# Altium integrated library Linear Technology Operational Amplifiers (LT1000).IntLib: 2280 symbols (part 77 of 79)
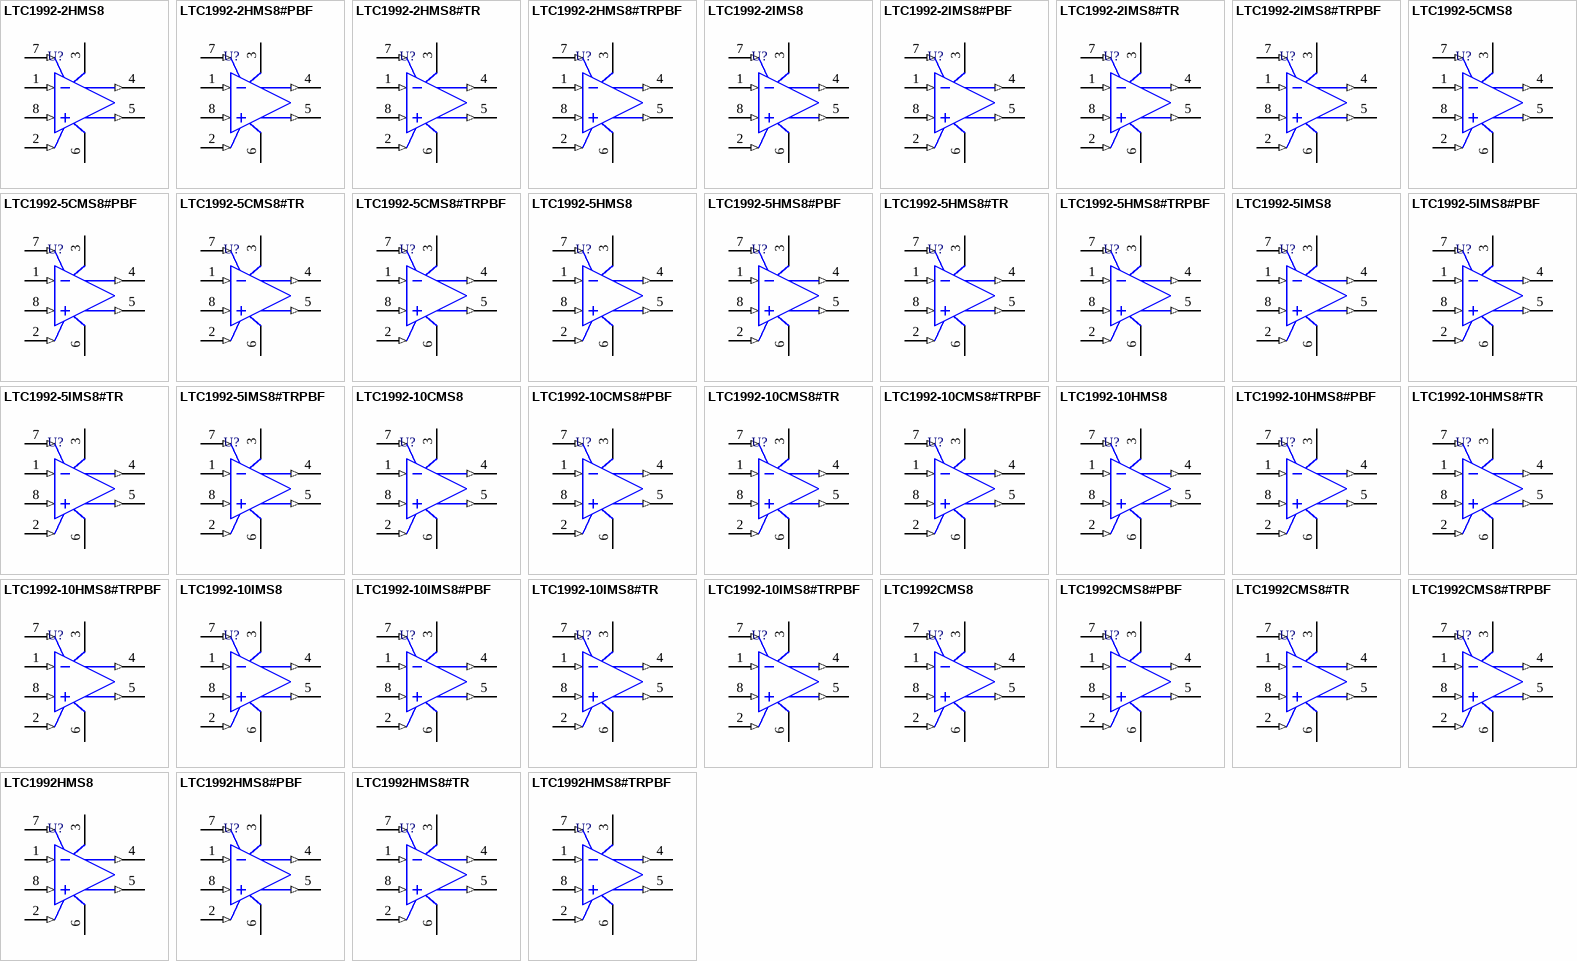
[diagram p181: symbols LTC1992-2HMS8 to LTC1992HMS8#TRPBF]

## LTC1992-2IMS8#TRPBF
designator U?
Single Channel, Low Power, Fully Differential Input / Output Amplifier / Driver, 4 MHz Typical GBW, 0.75 V/us Typical SR, 2.4 to 12 V, 8-Pin SOP (MS8-8), Industrial, Pb-Free, Reel; Linear Technology Part Number: LTC1992-2; Manufacturer: Linear Technology; PartNumber: LTC1992-2IMS8#TRPBF; Channels (#): 1; GBW (MHz) Typical: 4; Is (mA) Typical: 0.65; SR (V/us) Typical: 0.75; Vos (mV) Typical: 0.25; Vs Max (V): 12; Vs Min (V): 2.4; DatasheetVersion: Rev. A; PackageVersion: Rev G; PackageReference: LT-MS8-8; PackageDescription: 8-Lead Plastic Small Outline, Body 3.9 x 4.9 mm, Pitch 1.27 mm; Supplier 1: Digi-Key; Supplier Part Number 1: LTC1992-2IMS8#TRPBF-ND; Packing: Reel; RoHS: Pb-Free; Type: DIFF; Mounting Technology: Surface Mount; ComponentLink1Description: Manufacturer URL; ComponentLink1URL: http://www.linear.com/; ComponentLink2Description: Datasheet; ComponentLink2URL: http://cds.linear.com/docs/en/datasheet/1992fb.pdf; ComponentLink3Description: Package Specification; ComponentLink3URL: http://cds.linear.com/docs/en/packaging/05081610_G_SO8.pdf
footprint LT-MS8-8_N (SOP, 8-Leads, Body 3x3mm, Pitch 0.65mm, IPC Medium Density)
footprint LT-MS8-8_L (SOP, 8-Leads, Body 3x3mm, Pitch 0.65mm, IPC High Density)
footprint LT-MS8-8_M (SOP, 8-Leads, Body 3x3mm, Pitch 0.65mm, IPC Low Density)
pins: 1 -IN (in) "Inverting and Noninverting Inputs of the Amplifier. For the LTC1992 part, these pins are connected directly to the amplifier’s P-channel MOSFET input devices. The fixed gain LTC1992-X parts have precision, on-chip gain (See Datasheet)", 2 VOCM (in) "Output Common Mode Voltage Set Pin. The voltage on this pin sets the output signal’s common mode voltage level. The output common mode level is set independent of the input common mode level. This is a high impedance input (See Datasheet)", 3 +VS (power) "The +VS and -VS power supply pins should be bypassed with 0.1uF capacitors to an adequate analog ground or ground plane. The bypass capacitors should be located as closely as possible to the supply pins.", 4 +OUT (out) "The Positive and Negative Outputs of the Amplifier. These rail-to-rail outputs are designed to drive capacitive loads as high as 10,000pF.", 5 -OUT (out) "The Positive and Negative Outputs of the Amplifier. These rail-to-rail outputs are designed to drive capacitive loads as high as 10,000pF.", 6 -VS (power) "The +VS and -VS power supply pins should be bypassed with 0.1uF capacitors to an adequate analog ground or ground plane. The bypass capacitors should be located as closely as possible to the supply pins.", 7 VMID (in) "Mid-Supply Reference. This pin is connected to an on-chip resistive voltage divider to provide a midsupply reference. This provides a convenient way to set the output common mode level at half-supply. If used for this (See Datasheet)", 8 +IN (in) "Inverting and Noninverting Inputs of the Amplifier. For the LTC1992 part, these pins are connected directly to the amplifier’s P-channel MOSFET input devices. The fixed gain LTC1992-X parts have precision, on-chip gain (See Datasheet)"

## LTC1992-5CMS8
designator U?
Single Channel, Low Power, Fully Differential Input / Output Amplifier / Driver, 4 MHz Typical GBW, 0.75 V/us Typical SR, 2.4 to 12 V, 8-Pin SOP (MS8-8), Commercial; Linear Technology Part Number: LTC1992-5; Manufacturer: Linear Technology; PartNumber: LTC1992-5CMS8; Channels (#): 1; GBW (MHz) Typical: 4; Is (mA) Typical: 0.65; SR (V/us) Typical: 0.75; Vos (mV) Typical: 0.25; Vs Max (V): 12; Vs Min (V): 2.4; DatasheetVersion: Rev. A; PackageVersion: Rev G; PackageReference: LT-MS8-8; PackageDescription: 8-Lead Plastic Small Outline, Body 3.9 x 4.9 mm, Pitch 1.27 mm; Supplier 1: Digi-Key; Supplier Part Number 1: LTC1992-5CMS8-ND; Type: DIFF; Mounting Technology: Surface Mount; ComponentLink1Description: Manufacturer URL; ComponentLink1URL: http://www.linear.com/; ComponentLink2Description: Datasheet; ComponentLink2URL: http://cds.linear.com/docs/en/datasheet/1992fb.pdf; ComponentLink3Description: Package Specification; ComponentLink3URL: http://cds.linear.com/docs/en/packaging/05081610_G_SO8.pdf
footprint LT-MS8-8_N (SOP, 8-Leads, Body 3x3mm, Pitch 0.65mm, IPC Medium Density)
footprint LT-MS8-8_L (SOP, 8-Leads, Body 3x3mm, Pitch 0.65mm, IPC High Density)
footprint LT-MS8-8_M (SOP, 8-Leads, Body 3x3mm, Pitch 0.65mm, IPC Low Density)
pins: 1 -IN (in) "Inverting and Noninverting Inputs of the Amplifier. For the LTC1992 part, these pins are connected directly to the amplifier’s P-channel MOSFET input devices. The fixed gain LTC1992-X parts have precision, on-chip gain (See Datasheet)", 2 VOCM (in) "Output Common Mode Voltage Set Pin. The voltage on this pin sets the output signal’s common mode voltage level. The output common mode level is set independent of the input common mode level. This is a high impedance input (See Datasheet)", 3 +VS (power) "The +VS and -VS power supply pins should be bypassed with 0.1uF capacitors to an adequate analog ground or ground plane. The bypass capacitors should be located as closely as possible to the supply pins.", 4 +OUT (out) "The Positive and Negative Outputs of the Amplifier. These rail-to-rail outputs are designed to drive capacitive loads as high as 10,000pF.", 5 -OUT (out) "The Positive and Negative Outputs of the Amplifier. These rail-to-rail outputs are designed to drive capacitive loads as high as 10,000pF.", 6 -VS (power) "The +VS and -VS power supply pins should be bypassed with 0.1uF capacitors to an adequate analog ground or ground plane. The bypass capacitors should be located as closely as possible to the supply pins.", 7 VMID (in) "Mid-Supply Reference. This pin is connected to an on-chip resistive voltage divider to provide a midsupply reference. This provides a convenient way to set the output common mode level at half-supply. If used for this (See Datasheet)", 8 +IN (in) "Inverting and Noninverting Inputs of the Amplifier. For the LTC1992 part, these pins are connected directly to the amplifier’s P-channel MOSFET input devices. The fixed gain LTC1992-X parts have precision, on-chip gain (See Datasheet)"

## LTC1992-5CMS8#PBF
designator U?
Single Channel, Low Power, Fully Differential Input / Output Amplifier / Driver, 4 MHz Typical GBW, 0.75 V/us Typical SR, 2.4 to 12 V, 8-Pin SOP (MS8-8), Commercial, Pb-Free; Linear Technology Part Number: LTC1992-5; Manufacturer: Linear Technology; PartNumber: LTC1992-5CMS8#PBF; Channels (#): 1; GBW (MHz) Typical: 4; Is (mA) Typical: 0.65; SR (V/us) Typical: 0.75; Vos (mV) Typical: 0.25; Vs Max (V): 12; Vs Min (V): 2.4; DatasheetVersion: Rev. A; PackageVersion: Rev G; PackageReference: LT-MS8-8; PackageDescription: 8-Lead Plastic Small Outline, Body 3.9 x 4.9 mm, Pitch 1.27 mm; Supplier 1: Digi-Key; Supplier Part Number 1: LTC1992-5CMS8#PBF-ND; Supplier 2: Newark; Supplier Part Number 2: 56M4472; RoHS: Pb-Free; Type: DIFF; Mounting Technology: Surface Mount; ComponentLink1Description: Manufacturer URL; ComponentLink1URL: http://www.linear.com/; ComponentLink2Description: Datasheet; ComponentLink2URL: http://cds.linear.com/docs/en/datasheet/1992fb.pdf; ComponentLink3Description: Package Specification; ComponentLink3URL: http://cds.linear.com/docs/en/packaging/05081610_G_SO8.pdf
footprint LT-MS8-8_N (SOP, 8-Leads, Body 3x3mm, Pitch 0.65mm, IPC Medium Density)
footprint LT-MS8-8_L (SOP, 8-Leads, Body 3x3mm, Pitch 0.65mm, IPC High Density)
footprint LT-MS8-8_M (SOP, 8-Leads, Body 3x3mm, Pitch 0.65mm, IPC Low Density)
pins: 1 -IN (in) "Inverting and Noninverting Inputs of the Amplifier. For the LTC1992 part, these pins are connected directly to the amplifier’s P-channel MOSFET input devices. The fixed gain LTC1992-X parts have precision, on-chip gain (See Datasheet)", 2 VOCM (in) "Output Common Mode Voltage Set Pin. The voltage on this pin sets the output signal’s common mode voltage level. The output common mode level is set independent of the input common mode level. This is a high impedance input (See Datasheet)", 3 +VS (power) "The +VS and -VS power supply pins should be bypassed with 0.1uF capacitors to an adequate analog ground or ground plane. The bypass capacitors should be located as closely as possible to the supply pins.", 4 +OUT (out) "The Positive and Negative Outputs of the Amplifier. These rail-to-rail outputs are designed to drive capacitive loads as high as 10,000pF.", 5 -OUT (out) "The Positive and Negative Outputs of the Amplifier. These rail-to-rail outputs are designed to drive capacitive loads as high as 10,000pF.", 6 -VS (power) "The +VS and -VS power supply pins should be bypassed with 0.1uF capacitors to an adequate analog ground or ground plane. The bypass capacitors should be located as closely as possible to the supply pins.", 7 VMID (in) "Mid-Supply Reference. This pin is connected to an on-chip resistive voltage divider to provide a midsupply reference. This provides a convenient way to set the output common mode level at half-supply. If used for this (See Datasheet)", 8 +IN (in) "Inverting and Noninverting Inputs of the Amplifier. For the LTC1992 part, these pins are connected directly to the amplifier’s P-channel MOSFET input devices. The fixed gain LTC1992-X parts have precision, on-chip gain (See Datasheet)"

## LTC1992-5CMS8#TR
designator U?
Single Channel, Low Power, Fully Differential Input / Output Amplifier / Driver, 4 MHz Typical GBW, 0.75 V/us Typical SR, 2.4 to 12 V, 8-Pin SOP (MS8-8), Commercial, Reel; Linear Technology Part Number: LTC1992-5; Manufacturer: Linear Technology; PartNumber: LTC1992-5CMS8#TR; Channels (#): 1; GBW (MHz) Typical: 4; Is (mA) Typical: 0.65; SR (V/us) Typical: 0.75; Vos (mV) Typical: 0.25; Vs Max (V): 12; Vs Min (V): 2.4; DatasheetVersion: Rev. A; PackageVersion: Rev G; PackageReference: LT-MS8-8; PackageDescription: 8-Lead Plastic Small Outline, Body 3.9 x 4.9 mm, Pitch 1.27 mm; Supplier 1: Digi-Key; Supplier Part Number 1: LTC1992-5CMS8#TR-ND; Packing: Reel; Type: DIFF; Mounting Technology: Surface Mount; ComponentLink1Description: Manufacturer URL; ComponentLink1URL: http://www.linear.com/; ComponentLink2Description: Datasheet; ComponentLink2URL: http://cds.linear.com/docs/en/datasheet/1992fb.pdf; ComponentLink3Description: Package Specification; ComponentLink3URL: http://cds.linear.com/docs/en/packaging/05081610_G_SO8.pdf
footprint LT-MS8-8_N (SOP, 8-Leads, Body 3x3mm, Pitch 0.65mm, IPC Medium Density)
footprint LT-MS8-8_L (SOP, 8-Leads, Body 3x3mm, Pitch 0.65mm, IPC High Density)
footprint LT-MS8-8_M (SOP, 8-Leads, Body 3x3mm, Pitch 0.65mm, IPC Low Density)
pins: 1 -IN (in) "Inverting and Noninverting Inputs of the Amplifier. For the LTC1992 part, these pins are connected directly to the amplifier’s P-channel MOSFET input devices. The fixed gain LTC1992-X parts have precision, on-chip gain (See Datasheet)", 2 VOCM (in) "Output Common Mode Voltage Set Pin. The voltage on this pin sets the output signal’s common mode voltage level. The output common mode level is set independent of the input common mode level. This is a high impedance input (See Datasheet)", 3 +VS (power) "The +VS and -VS power supply pins should be bypassed with 0.1uF capacitors to an adequate analog ground or ground plane. The bypass capacitors should be located as closely as possible to the supply pins.", 4 +OUT (out) "The Positive and Negative Outputs of the Amplifier. These rail-to-rail outputs are designed to drive capacitive loads as high as 10,000pF.", 5 -OUT (out) "The Positive and Negative Outputs of the Amplifier. These rail-to-rail outputs are designed to drive capacitive loads as high as 10,000pF.", 6 -VS (power) "The +VS and -VS power supply pins should be bypassed with 0.1uF capacitors to an adequate analog ground or ground plane. The bypass capacitors should be located as closely as possible to the supply pins.", 7 VMID (in) "Mid-Supply Reference. This pin is connected to an on-chip resistive voltage divider to provide a midsupply reference. This provides a convenient way to set the output common mode level at half-supply. If used for this (See Datasheet)", 8 +IN (in) "Inverting and Noninverting Inputs of the Amplifier. For the LTC1992 part, these pins are connected directly to the amplifier’s P-channel MOSFET input devices. The fixed gain LTC1992-X parts have precision, on-chip gain (See Datasheet)"

## LTC1992-5CMS8#TRPBF
designator U?
Single Channel, Low Power, Fully Differential Input / Output Amplifier / Driver, 4 MHz Typical GBW, 0.75 V/us Typical SR, 2.4 to 12 V, 8-Pin SOP (MS8-8), Commercial, Pb-Free, Reel; Linear Technology Part Number: LTC1992-5; Manufacturer: Linear Technology; PartNumber: LTC1992-5CMS8#TRPBF; Channels (#): 1; GBW (MHz) Typical: 4; Is (mA) Typical: 0.65; SR (V/us) Typical: 0.75; Vos (mV) Typical: 0.25; Vs Max (V): 12; Vs Min (V): 2.4; DatasheetVersion: Rev. A; PackageVersion: Rev G; PackageReference: LT-MS8-8; PackageDescription: 8-Lead Plastic Small Outline, Body 3.9 x 4.9 mm, Pitch 1.27 mm; Supplier 1: Digi-Key; Supplier Part Number 1: LTC1992-5CMS8#TRPBF-ND; Packing: Reel; RoHS: Pb-Free; Type: DIFF; Mounting Technology: Surface Mount; ComponentLink1Description: Manufacturer URL; ComponentLink1URL: http://www.linear.com/; ComponentLink2Description: Datasheet; ComponentLink2URL: http://cds.linear.com/docs/en/datasheet/1992fb.pdf; ComponentLink3Description: Package Specification; ComponentLink3URL: http://cds.linear.com/docs/en/packaging/05081610_G_SO8.pdf
footprint LT-MS8-8_N (SOP, 8-Leads, Body 3x3mm, Pitch 0.65mm, IPC Medium Density)
footprint LT-MS8-8_L (SOP, 8-Leads, Body 3x3mm, Pitch 0.65mm, IPC High Density)
footprint LT-MS8-8_M (SOP, 8-Leads, Body 3x3mm, Pitch 0.65mm, IPC Low Density)
pins: 1 -IN (in) "Inverting and Noninverting Inputs of the Amplifier. For the LTC1992 part, these pins are connected directly to the amplifier’s P-channel MOSFET input devices. The fixed gain LTC1992-X parts have precision, on-chip gain (See Datasheet)", 2 VOCM (in) "Output Common Mode Voltage Set Pin. The voltage on this pin sets the output signal’s common mode voltage level. The output common mode level is set independent of the input common mode level. This is a high impedance input (See Datasheet)", 3 +VS (power) "The +VS and -VS power supply pins should be bypassed with 0.1uF capacitors to an adequate analog ground or ground plane. The bypass capacitors should be located as closely as possible to the supply pins.", 4 +OUT (out) "The Positive and Negative Outputs of the Amplifier. These rail-to-rail outputs are designed to drive capacitive loads as high as 10,000pF.", 5 -OUT (out) "The Positive and Negative Outputs of the Amplifier. These rail-to-rail outputs are designed to drive capacitive loads as high as 10,000pF.", 6 -VS (power) "The +VS and -VS power supply pins should be bypassed with 0.1uF capacitors to an adequate analog ground or ground plane. The bypass capacitors should be located as closely as possible to the supply pins.", 7 VMID (in) "Mid-Supply Reference. This pin is connected to an on-chip resistive voltage divider to provide a midsupply reference. This provides a convenient way to set the output common mode level at half-supply. If used for this (See Datasheet)", 8 +IN (in) "Inverting and Noninverting Inputs of the Amplifier. For the LTC1992 part, these pins are connected directly to the amplifier’s P-channel MOSFET input devices. The fixed gain LTC1992-X parts have precision, on-chip gain (See Datasheet)"

## LTC1992-5HMS8
designator U?
Single Channel, Low Power, Fully Differential Input / Output Amplifier / Driver, 4 MHz Typical GBW, 0.75 V/us Typical SR, 2.4 to 12 V, 8-Pin SOP (MS8-8), High Temperature / Automotive; Linear Technology Part Number: LTC1992-5; Manufacturer: Linear Technology; PartNumber: LTC1992-5HMS8; Channels (#): 1; GBW (MHz) Typical: 4; Is (mA) Typical: 0.65; SR (V/us) Typical: 0.75; Vos (mV) Typical: 0.25; Vs Max (V): 12; Vs Min (V): 2.4; DatasheetVersion: Rev. A; PackageVersion: Rev G; PackageReference: LT-MS8-8; PackageDescription: 8-Lead Plastic Small Outline, Body 3.9 x 4.9 mm, Pitch 1.27 mm; Supplier 1: Digi-Key; Supplier Part Number 1: LTC1992-5HMS8-ND; Type: DIFF; Mounting Technology: Surface Mount; ComponentLink1Description: Manufacturer URL; ComponentLink1URL: http://www.linear.com/; ComponentLink2Description: Datasheet; ComponentLink2URL: http://cds.linear.com/docs/en/datasheet/1992fb.pdf; ComponentLink3Description: Package Specification; ComponentLink3URL: http://cds.linear.com/docs/en/packaging/05081610_G_SO8.pdf
footprint LT-MS8-8_N (SOP, 8-Leads, Body 3x3mm, Pitch 0.65mm, IPC Medium Density)
footprint LT-MS8-8_L (SOP, 8-Leads, Body 3x3mm, Pitch 0.65mm, IPC High Density)
footprint LT-MS8-8_M (SOP, 8-Leads, Body 3x3mm, Pitch 0.65mm, IPC Low Density)
pins: 1 -IN (in) "Inverting and Noninverting Inputs of the Amplifier. For the LTC1992 part, these pins are connected directly to the amplifier’s P-channel MOSFET input devices. The fixed gain LTC1992-X parts have precision, on-chip gain (See Datasheet)", 2 VOCM (in) "Output Common Mode Voltage Set Pin. The voltage on this pin sets the output signal’s common mode voltage level. The output common mode level is set independent of the input common mode level. This is a high impedance input (See Datasheet)", 3 +VS (power) "The +VS and -VS power supply pins should be bypassed with 0.1uF capacitors to an adequate analog ground or ground plane. The bypass capacitors should be located as closely as possible to the supply pins.", 4 +OUT (out) "The Positive and Negative Outputs of the Amplifier. These rail-to-rail outputs are designed to drive capacitive loads as high as 10,000pF.", 5 -OUT (out) "The Positive and Negative Outputs of the Amplifier. These rail-to-rail outputs are designed to drive capacitive loads as high as 10,000pF.", 6 -VS (power) "The +VS and -VS power supply pins should be bypassed with 0.1uF capacitors to an adequate analog ground or ground plane. The bypass capacitors should be located as closely as possible to the supply pins.", 7 VMID (in) "Mid-Supply Reference. This pin is connected to an on-chip resistive voltage divider to provide a midsupply reference. This provides a convenient way to set the output common mode level at half-supply. If used for this (See Datasheet)", 8 +IN (in) "Inverting and Noninverting Inputs of the Amplifier. For the LTC1992 part, these pins are connected directly to the amplifier’s P-channel MOSFET input devices. The fixed gain LTC1992-X parts have precision, on-chip gain (See Datasheet)"

## LTC1992-5HMS8#PBF
designator U?
Single Channel, Low Power, Fully Differential Input / Output Amplifier / Driver, 4 MHz Typical GBW, 0.75 V/us Typical SR, 2.4 to 12 V, 8-Pin SOP (MS8-8), High Temperature / Automotive, Pb-Free; Linear Technology Part Number: LTC1992-5; Manufacturer: Linear Technology; PartNumber: LTC1992-5HMS8#PBF; Channels (#): 1; GBW (MHz) Typical: 4; Is (mA) Typical: 0.65; SR (V/us) Typical: 0.75; Vos (mV) Typical: 0.25; Vs Max (V): 12; Vs Min (V): 2.4; DatasheetVersion: Rev. A; PackageVersion: Rev G; PackageReference: LT-MS8-8; PackageDescription: 8-Lead Plastic Small Outline, Body 3.9 x 4.9 mm, Pitch 1.27 mm; Supplier 1: Digi-Key; Supplier Part Number 1: LTC1992-5HMS8#PBF-ND; RoHS: Pb-Free; Type: DIFF; Mounting Technology: Surface Mount; ComponentLink1Description: Manufacturer URL; ComponentLink1URL: http://www.linear.com/; ComponentLink2Description: Datasheet; ComponentLink2URL: http://cds.linear.com/docs/en/datasheet/1992fb.pdf; ComponentLink3Description: Package Specification; ComponentLink3URL: http://cds.linear.com/docs/en/packaging/05081610_G_SO8.pdf
footprint LT-MS8-8_N (SOP, 8-Leads, Body 3x3mm, Pitch 0.65mm, IPC Medium Density)
footprint LT-MS8-8_L (SOP, 8-Leads, Body 3x3mm, Pitch 0.65mm, IPC High Density)
footprint LT-MS8-8_M (SOP, 8-Leads, Body 3x3mm, Pitch 0.65mm, IPC Low Density)
pins: 1 -IN (in) "Inverting and Noninverting Inputs of the Amplifier. For the LTC1992 part, these pins are connected directly to the amplifier’s P-channel MOSFET input devices. The fixed gain LTC1992-X parts have precision, on-chip gain (See Datasheet)", 2 VOCM (in) "Output Common Mode Voltage Set Pin. The voltage on this pin sets the output signal’s common mode voltage level. The output common mode level is set independent of the input common mode level. This is a high impedance input (See Datasheet)", 3 +VS (power) "The +VS and -VS power supply pins should be bypassed with 0.1uF capacitors to an adequate analog ground or ground plane. The bypass capacitors should be located as closely as possible to the supply pins.", 4 +OUT (out) "The Positive and Negative Outputs of the Amplifier. These rail-to-rail outputs are designed to drive capacitive loads as high as 10,000pF.", 5 -OUT (out) "The Positive and Negative Outputs of the Amplifier. These rail-to-rail outputs are designed to drive capacitive loads as high as 10,000pF.", 6 -VS (power) "The +VS and -VS power supply pins should be bypassed with 0.1uF capacitors to an adequate analog ground or ground plane. The bypass capacitors should be located as closely as possible to the supply pins.", 7 VMID (in) "Mid-Supply Reference. This pin is connected to an on-chip resistive voltage divider to provide a midsupply reference. This provides a convenient way to set the output common mode level at half-supply. If used for this (See Datasheet)", 8 +IN (in) "Inverting and Noninverting Inputs of the Amplifier. For the LTC1992 part, these pins are connected directly to the amplifier’s P-channel MOSFET input devices. The fixed gain LTC1992-X parts have precision, on-chip gain (See Datasheet)"

## LTC1992-5HMS8#TR
designator U?
Single Channel, Low Power, Fully Differential Input / Output Amplifier / Driver, 4 MHz Typical GBW, 0.75 V/us Typical SR, 2.4 to 12 V, 8-Pin SOP (MS8-8), High Temperature / Automotive, Reel; Linear Technology Part Number: LTC1992-5; Manufacturer: Linear Technology; PartNumber: LTC1992-5HMS8#TR; Channels (#): 1; GBW (MHz) Typical: 4; Is (mA) Typical: 0.65; SR (V/us) Typical: 0.75; Vos (mV) Typical: 0.25; Vs Max (V): 12; Vs Min (V): 2.4; DatasheetVersion: Rev. A; PackageVersion: Rev G; PackageReference: LT-MS8-8; PackageDescription: 8-Lead Plastic Small Outline, Body 3.9 x 4.9 mm, Pitch 1.27 mm; Supplier 1: Digi-Key; Supplier Part Number 1: LTC1992-5HMS8#TR-ND; Packing: Reel; Type: DIFF; Mounting Technology: Surface Mount; ComponentLink1Description: Manufacturer URL; ComponentLink1URL: http://www.linear.com/; ComponentLink2Description: Datasheet; ComponentLink2URL: http://cds.linear.com/docs/en/datasheet/1992fb.pdf; ComponentLink3Description: Package Specification; ComponentLink3URL: http://cds.linear.com/docs/en/packaging/05081610_G_SO8.pdf
footprint LT-MS8-8_N (SOP, 8-Leads, Body 3x3mm, Pitch 0.65mm, IPC Medium Density)
footprint LT-MS8-8_L (SOP, 8-Leads, Body 3x3mm, Pitch 0.65mm, IPC High Density)
footprint LT-MS8-8_M (SOP, 8-Leads, Body 3x3mm, Pitch 0.65mm, IPC Low Density)
pins: 1 -IN (in) "Inverting and Noninverting Inputs of the Amplifier. For the LTC1992 part, these pins are connected directly to the amplifier’s P-channel MOSFET input devices. The fixed gain LTC1992-X parts have precision, on-chip gain (See Datasheet)", 2 VOCM (in) "Output Common Mode Voltage Set Pin. The voltage on this pin sets the output signal’s common mode voltage level. The output common mode level is set independent of the input common mode level. This is a high impedance input (See Datasheet)", 3 +VS (power) "The +VS and -VS power supply pins should be bypassed with 0.1uF capacitors to an adequate analog ground or ground plane. The bypass capacitors should be located as closely as possible to the supply pins.", 4 +OUT (out) "The Positive and Negative Outputs of the Amplifier. These rail-to-rail outputs are designed to drive capacitive loads as high as 10,000pF.", 5 -OUT (out) "The Positive and Negative Outputs of the Amplifier. These rail-to-rail outputs are designed to drive capacitive loads as high as 10,000pF.", 6 -VS (power) "The +VS and -VS power supply pins should be bypassed with 0.1uF capacitors to an adequate analog ground or ground plane. The bypass capacitors should be located as closely as possible to the supply pins.", 7 VMID (in) "Mid-Supply Reference. This pin is connected to an on-chip resistive voltage divider to provide a midsupply reference. This provides a convenient way to set the output common mode level at half-supply. If used for this (See Datasheet)", 8 +IN (in) "Inverting and Noninverting Inputs of the Amplifier. For the LTC1992 part, these pins are connected directly to the amplifier’s P-channel MOSFET input devices. The fixed gain LTC1992-X parts have precision, on-chip gain (See Datasheet)"

## LTC1992-5HMS8#TRPBF
designator U?
Single Channel, Low Power, Fully Differential Input / Output Amplifier / Driver, 4 MHz Typical GBW, 0.75 V/us Typical SR, 2.4 to 12 V, 8-Pin SOP (MS8-8), High Temperature / Automotive, Pb-Free, Reel; Linear Technology Part Number: LTC1992-5; Manufacturer: Linear Technology; PartNumber: LTC1992-5HMS8#TRPBF; Channels (#): 1; GBW (MHz) Typical: 4; Is (mA) Typical: 0.65; SR (V/us) Typical: 0.75; Vos (mV) Typical: 0.25; Vs Max (V): 12; Vs Min (V): 2.4; DatasheetVersion: Rev. A; PackageVersion: Rev G; PackageReference: LT-MS8-8; PackageDescription: 8-Lead Plastic Small Outline, Body 3.9 x 4.9 mm, Pitch 1.27 mm; Supplier 1: Digi-Key; Supplier Part Number 1: LTC1992-5HMS8#TRPBF-ND; Packing: Reel; RoHS: Pb-Free; Type: DIFF; Mounting Technology: Surface Mount; ComponentLink1Description: Manufacturer URL; ComponentLink1URL: http://www.linear.com/; ComponentLink2Description: Datasheet; ComponentLink2URL: http://cds.linear.com/docs/en/datasheet/1992fb.pdf; ComponentLink3Description: Package Specification; ComponentLink3URL: http://cds.linear.com/docs/en/packaging/05081610_G_SO8.pdf
footprint LT-MS8-8_N (SOP, 8-Leads, Body 3x3mm, Pitch 0.65mm, IPC Medium Density)
footprint LT-MS8-8_L (SOP, 8-Leads, Body 3x3mm, Pitch 0.65mm, IPC High Density)
footprint LT-MS8-8_M (SOP, 8-Leads, Body 3x3mm, Pitch 0.65mm, IPC Low Density)
pins: 1 -IN (in) "Inverting and Noninverting Inputs of the Amplifier. For the LTC1992 part, these pins are connected directly to the amplifier’s P-channel MOSFET input devices. The fixed gain LTC1992-X parts have precision, on-chip gain (See Datasheet)", 2 VOCM (in) "Output Common Mode Voltage Set Pin. The voltage on this pin sets the output signal’s common mode voltage level. The output common mode level is set independent of the input common mode level. This is a high impedance input (See Datasheet)", 3 +VS (power) "The +VS and -VS power supply pins should be bypassed with 0.1uF capacitors to an adequate analog ground or ground plane. The bypass capacitors should be located as closely as possible to the supply pins.", 4 +OUT (out) "The Positive and Negative Outputs of the Amplifier. These rail-to-rail outputs are designed to drive capacitive loads as high as 10,000pF.", 5 -OUT (out) "The Positive and Negative Outputs of the Amplifier. These rail-to-rail outputs are designed to drive capacitive loads as high as 10,000pF.", 6 -VS (power) "The +VS and -VS power supply pins should be bypassed with 0.1uF capacitors to an adequate analog ground or ground plane. The bypass capacitors should be located as closely as possible to the supply pins.", 7 VMID (in) "Mid-Supply Reference. This pin is connected to an on-chip resistive voltage divider to provide a midsupply reference. This provides a convenient way to set the output common mode level at half-supply. If used for this (See Datasheet)", 8 +IN (in) "Inverting and Noninverting Inputs of the Amplifier. For the LTC1992 part, these pins are connected directly to the amplifier’s P-channel MOSFET input devices. The fixed gain LTC1992-X parts have precision, on-chip gain (See Datasheet)"

## LTC1992-5IMS8
designator U?
Single Channel, Low Power, Fully Differential Input / Output Amplifier / Driver, 4 MHz Typical GBW, 0.75 V/us Typical SR, 2.4 to 12 V, 8-Pin SOP (MS8-8), Industrial; Linear Technology Part Number: LTC1992-5; Manufacturer: Linear Technology; PartNumber: LTC1992-5IMS8; Channels (#): 1; GBW (MHz) Typical: 4; Is (mA) Typical: 0.65; SR (V/us) Typical: 0.75; Vos (mV) Typical: 0.25; Vs Max (V): 12; Vs Min (V): 2.4; DatasheetVersion: Rev. A; PackageVersion: Rev G; PackageReference: LT-MS8-8; PackageDescription: 8-Lead Plastic Small Outline, Body 3.9 x 4.9 mm, Pitch 1.27 mm; Supplier 1: Digi-Key; Supplier Part Number 1: LTC1992-5IMS8-ND; Type: DIFF; Mounting Technology: Surface Mount; ComponentLink1Description: Manufacturer URL; ComponentLink1URL: http://www.linear.com/; ComponentLink2Description: Datasheet; ComponentLink2URL: http://cds.linear.com/docs/en/datasheet/1992fb.pdf; ComponentLink3Description: Package Specification; ComponentLink3URL: http://cds.linear.com/docs/en/packaging/05081610_G_SO8.pdf
footprint LT-MS8-8_N (SOP, 8-Leads, Body 3x3mm, Pitch 0.65mm, IPC Medium Density)
footprint LT-MS8-8_L (SOP, 8-Leads, Body 3x3mm, Pitch 0.65mm, IPC High Density)
footprint LT-MS8-8_M (SOP, 8-Leads, Body 3x3mm, Pitch 0.65mm, IPC Low Density)
pins: 1 -IN (in) "Inverting and Noninverting Inputs of the Amplifier. For the LTC1992 part, these pins are connected directly to the amplifier’s P-channel MOSFET input devices. The fixed gain LTC1992-X parts have precision, on-chip gain (See Datasheet)", 2 VOCM (in) "Output Common Mode Voltage Set Pin. The voltage on this pin sets the output signal’s common mode voltage level. The output common mode level is set independent of the input common mode level. This is a high impedance input (See Datasheet)", 3 +VS (power) "The +VS and -VS power supply pins should be bypassed with 0.1uF capacitors to an adequate analog ground or ground plane. The bypass capacitors should be located as closely as possible to the supply pins.", 4 +OUT (out) "The Positive and Negative Outputs of the Amplifier. These rail-to-rail outputs are designed to drive capacitive loads as high as 10,000pF.", 5 -OUT (out) "The Positive and Negative Outputs of the Amplifier. These rail-to-rail outputs are designed to drive capacitive loads as high as 10,000pF.", 6 -VS (power) "The +VS and -VS power supply pins should be bypassed with 0.1uF capacitors to an adequate analog ground or ground plane. The bypass capacitors should be located as closely as possible to the supply pins.", 7 VMID (in) "Mid-Supply Reference. This pin is connected to an on-chip resistive voltage divider to provide a midsupply reference. This provides a convenient way to set the output common mode level at half-supply. If used for this (See Datasheet)", 8 +IN (in) "Inverting and Noninverting Inputs of the Amplifier. For the LTC1992 part, these pins are connected directly to the amplifier’s P-channel MOSFET input devices. The fixed gain LTC1992-X parts have precision, on-chip gain (See Datasheet)"

## LTC1992-5IMS8#PBF
designator U?
Single Channel, Low Power, Fully Differential Input / Output Amplifier / Driver, 4 MHz Typical GBW, 0.75 V/us Typical SR, 2.4 to 12 V, 8-Pin SOP (MS8-8), Industrial, Pb-Free; Linear Technology Part Number: LTC1992-5; Manufacturer: Linear Technology; PartNumber: LTC1992-5IMS8#PBF; Channels (#): 1; GBW (MHz) Typical: 4; Is (mA) Typical: 0.65; SR (V/us) Typical: 0.75; Vos (mV) Typical: 0.25; Vs Max (V): 12; Vs Min (V): 2.4; DatasheetVersion: Rev. A; PackageVersion: Rev G; PackageReference: LT-MS8-8; PackageDescription: 8-Lead Plastic Small Outline, Body 3.9 x 4.9 mm, Pitch 1.27 mm; Supplier 1: Digi-Key; Supplier Part Number 1: LTC1992-5IMS8#PBF-ND; RoHS: Pb-Free; Type: DIFF; Mounting Technology: Surface Mount; ComponentLink1Description: Manufacturer URL; ComponentLink1URL: http://www.linear.com/; ComponentLink2Description: Datasheet; ComponentLink2URL: http://cds.linear.com/docs/en/datasheet/1992fb.pdf; ComponentLink3Description: Package Specification; ComponentLink3URL: http://cds.linear.com/docs/en/packaging/05081610_G_SO8.pdf
footprint LT-MS8-8_N (SOP, 8-Leads, Body 3x3mm, Pitch 0.65mm, IPC Medium Density)
footprint LT-MS8-8_L (SOP, 8-Leads, Body 3x3mm, Pitch 0.65mm, IPC High Density)
footprint LT-MS8-8_M (SOP, 8-Leads, Body 3x3mm, Pitch 0.65mm, IPC Low Density)
pins: 1 -IN (in) "Inverting and Noninverting Inputs of the Amplifier. For the LTC1992 part, these pins are connected directly to the amplifier’s P-channel MOSFET input devices. The fixed gain LTC1992-X parts have precision, on-chip gain (See Datasheet)", 2 VOCM (in) "Output Common Mode Voltage Set Pin. The voltage on this pin sets the output signal’s common mode voltage level. The output common mode level is set independent of the input common mode level. This is a high impedance input (See Datasheet)", 3 +VS (power) "The +VS and -VS power supply pins should be bypassed with 0.1uF capacitors to an adequate analog ground or ground plane. The bypass capacitors should be located as closely as possible to the supply pins.", 4 +OUT (out) "The Positive and Negative Outputs of the Amplifier. These rail-to-rail outputs are designed to drive capacitive loads as high as 10,000pF.", 5 -OUT (out) "The Positive and Negative Outputs of the Amplifier. These rail-to-rail outputs are designed to drive capacitive loads as high as 10,000pF.", 6 -VS (power) "The +VS and -VS power supply pins should be bypassed with 0.1uF capacitors to an adequate analog ground or ground plane. The bypass capacitors should be located as closely as possible to the supply pins.", 7 VMID (in) "Mid-Supply Reference. This pin is connected to an on-chip resistive voltage divider to provide a midsupply reference. This provides a convenient way to set the output common mode level at half-supply. If used for this (See Datasheet)", 8 +IN (in) "Inverting and Noninverting Inputs of the Amplifier. For the LTC1992 part, these pins are connected directly to the amplifier’s P-channel MOSFET input devices. The fixed gain LTC1992-X parts have precision, on-chip gain (See Datasheet)"

## LTC1992-5IMS8#TR
designator U?
Single Channel, Low Power, Fully Differential Input / Output Amplifier / Driver, 4 MHz Typical GBW, 0.75 V/us Typical SR, 2.4 to 12 V, 8-Pin SOP (MS8-8), Industrial, Reel; Linear Technology Part Number: LTC1992-5; Manufacturer: Linear Technology; PartNumber: LTC1992-5IMS8#TR; Channels (#): 1; GBW (MHz) Typical: 4; Is (mA) Typical: 0.65; SR (V/us) Typical: 0.75; Vos (mV) Typical: 0.25; Vs Max (V): 12; Vs Min (V): 2.4; DatasheetVersion: Rev. A; PackageVersion: Rev G; PackageReference: LT-MS8-8; PackageDescription: 8-Lead Plastic Small Outline, Body 3.9 x 4.9 mm, Pitch 1.27 mm; Supplier 1: Digi-Key; Supplier Part Number 1: LTC1992-5IMS8#TR-ND; Packing: Reel; Type: DIFF; Mounting Technology: Surface Mount; ComponentLink1Description: Manufacturer URL; ComponentLink1URL: http://www.linear.com/; ComponentLink2Description: Datasheet; ComponentLink2URL: http://cds.linear.com/docs/en/datasheet/1992fb.pdf; ComponentLink3Description: Package Specification; ComponentLink3URL: http://cds.linear.com/docs/en/packaging/05081610_G_SO8.pdf
footprint LT-MS8-8_N (SOP, 8-Leads, Body 3x3mm, Pitch 0.65mm, IPC Medium Density)
footprint LT-MS8-8_L (SOP, 8-Leads, Body 3x3mm, Pitch 0.65mm, IPC High Density)
footprint LT-MS8-8_M (SOP, 8-Leads, Body 3x3mm, Pitch 0.65mm, IPC Low Density)
pins: 1 -IN (in) "Inverting and Noninverting Inputs of the Amplifier. For the LTC1992 part, these pins are connected directly to the amplifier’s P-channel MOSFET input devices. The fixed gain LTC1992-X parts have precision, on-chip gain (See Datasheet)", 2 VOCM (in) "Output Common Mode Voltage Set Pin. The voltage on this pin sets the output signal’s common mode voltage level. The output common mode level is set independent of the input common mode level. This is a high impedance input (See Datasheet)", 3 +VS (power) "The +VS and -VS power supply pins should be bypassed with 0.1uF capacitors to an adequate analog ground or ground plane. The bypass capacitors should be located as closely as possible to the supply pins.", 4 +OUT (out) "The Positive and Negative Outputs of the Amplifier. These rail-to-rail outputs are designed to drive capacitive loads as high as 10,000pF.", 5 -OUT (out) "The Positive and Negative Outputs of the Amplifier. These rail-to-rail outputs are designed to drive capacitive loads as high as 10,000pF.", 6 -VS (power) "The +VS and -VS power supply pins should be bypassed with 0.1uF capacitors to an adequate analog ground or ground plane. The bypass capacitors should be located as closely as possible to the supply pins.", 7 VMID (in) "Mid-Supply Reference. This pin is connected to an on-chip resistive voltage divider to provide a midsupply reference. This provides a convenient way to set the output common mode level at half-supply. If used for this (See Datasheet)", 8 +IN (in) "Inverting and Noninverting Inputs of the Amplifier. For the LTC1992 part, these pins are connected directly to the amplifier’s P-channel MOSFET input devices. The fixed gain LTC1992-X parts have precision, on-chip gain (See Datasheet)"

## LTC1992-5IMS8#TRPBF
designator U?
Single Channel, Low Power, Fully Differential Input / Output Amplifier / Driver, 4 MHz Typical GBW, 0.75 V/us Typical SR, 2.4 to 12 V, 8-Pin SOP (MS8-8), Industrial, Pb-Free, Reel; Linear Technology Part Number: LTC1992-5; Manufacturer: Linear Technology; PartNumber: LTC1992-5IMS8#TRPBF; Channels (#): 1; GBW (MHz) Typical: 4; Is (mA) Typical: 0.65; SR (V/us) Typical: 0.75; Vos (mV) Typical: 0.25; Vs Max (V): 12; Vs Min (V): 2.4; DatasheetVersion: Rev. A; PackageVersion: Rev G; PackageReference: LT-MS8-8; PackageDescription: 8-Lead Plastic Small Outline, Body 3.9 x 4.9 mm, Pitch 1.27 mm; Supplier 1: Digi-Key; Supplier Part Number 1: LTC1992-5IMS8#TRPBF-ND; Packing: Reel; RoHS: Pb-Free; Type: DIFF; Mounting Technology: Surface Mount; ComponentLink1Description: Manufacturer URL; ComponentLink1URL: http://www.linear.com/; ComponentLink2Description: Datasheet; ComponentLink2URL: http://cds.linear.com/docs/en/datasheet/1992fb.pdf; ComponentLink3Description: Package Specification; ComponentLink3URL: http://cds.linear.com/docs/en/packaging/05081610_G_SO8.pdf
footprint LT-MS8-8_N (SOP, 8-Leads, Body 3x3mm, Pitch 0.65mm, IPC Medium Density)
footprint LT-MS8-8_L (SOP, 8-Leads, Body 3x3mm, Pitch 0.65mm, IPC High Density)
footprint LT-MS8-8_M (SOP, 8-Leads, Body 3x3mm, Pitch 0.65mm, IPC Low Density)
pins: 1 -IN (in) "Inverting and Noninverting Inputs of the Amplifier. For the LTC1992 part, these pins are connected directly to the amplifier’s P-channel MOSFET input devices. The fixed gain LTC1992-X parts have precision, on-chip gain (See Datasheet)", 2 VOCM (in) "Output Common Mode Voltage Set Pin. The voltage on this pin sets the output signal’s common mode voltage level. The output common mode level is set independent of the input common mode level. This is a high impedance input (See Datasheet)", 3 +VS (power) "The +VS and -VS power supply pins should be bypassed with 0.1uF capacitors to an adequate analog ground or ground plane. The bypass capacitors should be located as closely as possible to the supply pins.", 4 +OUT (out) "The Positive and Negative Outputs of the Amplifier. These rail-to-rail outputs are designed to drive capacitive loads as high as 10,000pF.", 5 -OUT (out) "The Positive and Negative Outputs of the Amplifier. These rail-to-rail outputs are designed to drive capacitive loads as high as 10,000pF.", 6 -VS (power) "The +VS and -VS power supply pins should be bypassed with 0.1uF capacitors to an adequate analog ground or ground plane. The bypass capacitors should be located as closely as possible to the supply pins.", 7 VMID (in) "Mid-Supply Reference. This pin is connected to an on-chip resistive voltage divider to provide a midsupply reference. This provides a convenient way to set the output common mode level at half-supply. If used for this (See Datasheet)", 8 +IN (in) "Inverting and Noninverting Inputs of the Amplifier. For the LTC1992 part, these pins are connected directly to the amplifier’s P-channel MOSFET input devices. The fixed gain LTC1992-X parts have precision, on-chip gain (See Datasheet)"

## LTC1992-10CMS8
designator U?
Single Channel, Low Power, Fully Differential Input / Output Amplifier / Driver, 4 MHz Typical GBW, 0.75 V/us Typical SR, 2.4 to 12 V, 8-Pin SOP (MS8-8), Commercial; Linear Technology Part Number: LTC1992-10; Manufacturer: Linear Technology; PartNumber: LTC1992-10CMS8; Channels (#): 1; GBW (MHz) Typical: 4; Is (mA) Typical: 0.65; SR (V/us) Typical: 0.75; Vos (mV) Typical: 0.25; Vs Max (V): 12; Vs Min (V): 2.4; DatasheetVersion: Rev. A; PackageVersion: Rev G; PackageReference: LT-MS8-8; PackageDescription: 8-Lead Plastic Small Outline, Body 3.9 x 4.9 mm, Pitch 1.27 mm; Supplier 1: Digi-Key; Supplier Part Number 1: LTC1992-10CMS8-ND; Type: DIFF; Mounting Technology: Surface Mount; ComponentLink1Description: Manufacturer URL; ComponentLink1URL: http://www.linear.com/; ComponentLink2Description: Datasheet; ComponentLink2URL: http://cds.linear.com/docs/en/datasheet/1992fb.pdf; ComponentLink3Description: Package Specification; ComponentLink3URL: http://cds.linear.com/docs/en/packaging/05081610_G_SO8.pdf
footprint LT-MS8-8_N (SOP, 8-Leads, Body 3x3mm, Pitch 0.65mm, IPC Medium Density)
footprint LT-MS8-8_L (SOP, 8-Leads, Body 3x3mm, Pitch 0.65mm, IPC High Density)
footprint LT-MS8-8_M (SOP, 8-Leads, Body 3x3mm, Pitch 0.65mm, IPC Low Density)
pins: 1 -IN (in) "Inverting and Noninverting Inputs of the Amplifier. For the LTC1992 part, these pins are connected directly to the amplifier’s P-channel MOSFET input devices. The fixed gain LTC1992-X parts have precision, on-chip gain (See Datasheet)", 2 VOCM (in) "Output Common Mode Voltage Set Pin. The voltage on this pin sets the output signal’s common mode voltage level. The output common mode level is set independent of the input common mode level. This is a high impedance input (See Datasheet)", 3 +VS (power) "The +VS and -VS power supply pins should be bypassed with 0.1uF capacitors to an adequate analog ground or ground plane. The bypass capacitors should be located as closely as possible to the supply pins.", 4 +OUT (out) "The Positive and Negative Outputs of the Amplifier. These rail-to-rail outputs are designed to drive capacitive loads as high as 10,000pF.", 5 -OUT (out) "The Positive and Negative Outputs of the Amplifier. These rail-to-rail outputs are designed to drive capacitive loads as high as 10,000pF.", 6 -VS (power) "The +VS and -VS power supply pins should be bypassed with 0.1uF capacitors to an adequate analog ground or ground plane. The bypass capacitors should be located as closely as possible to the supply pins.", 7 VMID (in) "Mid-Supply Reference. This pin is connected to an on-chip resistive voltage divider to provide a midsupply reference. This provides a convenient way to set the output common mode level at half-supply. If used for this (See Datasheet)", 8 +IN (in) "Inverting and Noninverting Inputs of the Amplifier. For the LTC1992 part, these pins are connected directly to the amplifier’s P-channel MOSFET input devices. The fixed gain LTC1992-X parts have precision, on-chip gain (See Datasheet)"

## LTC1992-10CMS8#PBF
designator U?
Single Channel, Low Power, Fully Differential Input / Output Amplifier / Driver, 4 MHz Typical GBW, 0.75 V/us Typical SR, 2.4 to 12 V, 8-Pin SOP (MS8-8), Commercial, Pb-Free; Linear Technology Part Number: LTC1992-10; Manufacturer: Linear Technology; PartNumber: LTC1992-10CMS8#PBF; Channels (#): 1; GBW (MHz) Typical: 4; Is (mA) Typical: 0.65; SR (V/us) Typical: 0.75; Vos (mV) Typical: 0.25; Vs Max (V): 12; Vs Min (V): 2.4; DatasheetVersion: Rev. A; PackageVersion: Rev G; PackageReference: LT-MS8-8; PackageDescription: 8-Lead Plastic Small Outline, Body 3.9 x 4.9 mm, Pitch 1.27 mm; Supplier 1: Digi-Key; Supplier Part Number 1: LTC1992-10CMS8#PBF-ND; Supplier 2: Newark; Supplier Part Number 2: 56M4448; RoHS: Pb-Free; Type: DIFF; Mounting Technology: Surface Mount; ComponentLink1Description: Manufacturer URL; ComponentLink1URL: http://www.linear.com/; ComponentLink2Description: Datasheet; ComponentLink2URL: http://cds.linear.com/docs/en/datasheet/1992fb.pdf; ComponentLink3Description: Package Specification; ComponentLink3URL: http://cds.linear.com/docs/en/packaging/05081610_G_SO8.pdf
footprint LT-MS8-8_N (SOP, 8-Leads, Body 3x3mm, Pitch 0.65mm, IPC Medium Density)
footprint LT-MS8-8_L (SOP, 8-Leads, Body 3x3mm, Pitch 0.65mm, IPC High Density)
footprint LT-MS8-8_M (SOP, 8-Leads, Body 3x3mm, Pitch 0.65mm, IPC Low Density)
pins: 1 -IN (in) "Inverting and Noninverting Inputs of the Amplifier. For the LTC1992 part, these pins are connected directly to the amplifier’s P-channel MOSFET input devices. The fixed gain LTC1992-X parts have precision, on-chip gain (See Datasheet)", 2 VOCM (in) "Output Common Mode Voltage Set Pin. The voltage on this pin sets the output signal’s common mode voltage level. The output common mode level is set independent of the input common mode level. This is a high impedance input (See Datasheet)", 3 +VS (power) "The +VS and -VS power supply pins should be bypassed with 0.1uF capacitors to an adequate analog ground or ground plane. The bypass capacitors should be located as closely as possible to the supply pins.", 4 +OUT (out) "The Positive and Negative Outputs of the Amplifier. These rail-to-rail outputs are designed to drive capacitive loads as high as 10,000pF.", 5 -OUT (out) "The Positive and Negative Outputs of the Amplifier. These rail-to-rail outputs are designed to drive capacitive loads as high as 10,000pF.", 6 -VS (power) "The +VS and -VS power supply pins should be bypassed with 0.1uF capacitors to an adequate analog ground or ground plane. The bypass capacitors should be located as closely as possible to the supply pins.", 7 VMID (in) "Mid-Supply Reference. This pin is connected to an on-chip resistive voltage divider to provide a midsupply reference. This provides a convenient way to set the output common mode level at half-supply. If used for this (See Datasheet)", 8 +IN (in) "Inverting and Noninverting Inputs of the Amplifier. For the LTC1992 part, these pins are connected directly to the amplifier’s P-channel MOSFET input devices. The fixed gain LTC1992-X parts have precision, on-chip gain (See Datasheet)"

## LTC1992-10CMS8#TR
designator U?
Single Channel, Low Power, Fully Differential Input / Output Amplifier / Driver, 4 MHz Typical GBW, 0.75 V/us Typical SR, 2.4 to 12 V, 8-Pin SOP (MS8-8), Commercial, Reel; Linear Technology Part Number: LTC1992-10; Manufacturer: Linear Technology; PartNumber: LTC1992-10CMS8#TR; Channels (#): 1; GBW (MHz) Typical: 4; Is (mA) Typical: 0.65; SR (V/us) Typical: 0.75; Vos (mV) Typical: 0.25; Vs Max (V): 12; Vs Min (V): 2.4; DatasheetVersion: Rev. A; PackageVersion: Rev G; PackageReference: LT-MS8-8; PackageDescription: 8-Lead Plastic Small Outline, Body 3.9 x 4.9 mm, Pitch 1.27 mm; Supplier 1: Digi-Key; Supplier Part Number 1: LTC1992-10CMS8#TR-ND; Packing: Reel; Type: DIFF; Mounting Technology: Surface Mount; ComponentLink1Description: Manufacturer URL; ComponentLink1URL: http://www.linear.com/; ComponentLink2Description: Datasheet; ComponentLink2URL: http://cds.linear.com/docs/en/datasheet/1992fb.pdf; ComponentLink3Description: Package Specification; ComponentLink3URL: http://cds.linear.com/docs/en/packaging/05081610_G_SO8.pdf
footprint LT-MS8-8_N (SOP, 8-Leads, Body 3x3mm, Pitch 0.65mm, IPC Medium Density)
footprint LT-MS8-8_L (SOP, 8-Leads, Body 3x3mm, Pitch 0.65mm, IPC High Density)
footprint LT-MS8-8_M (SOP, 8-Leads, Body 3x3mm, Pitch 0.65mm, IPC Low Density)
pins: 1 -IN (in) "Inverting and Noninverting Inputs of the Amplifier. For the LTC1992 part, these pins are connected directly to the amplifier’s P-channel MOSFET input devices. The fixed gain LTC1992-X parts have precision, on-chip gain (See Datasheet)", 2 VOCM (in) "Output Common Mode Voltage Set Pin. The voltage on this pin sets the output signal’s common mode voltage level. The output common mode level is set independent of the input common mode level. This is a high impedance input (See Datasheet)", 3 +VS (power) "The +VS and -VS power supply pins should be bypassed with 0.1uF capacitors to an adequate analog ground or ground plane. The bypass capacitors should be located as closely as possible to the supply pins.", 4 +OUT (out) "The Positive and Negative Outputs of the Amplifier. These rail-to-rail outputs are designed to drive capacitive loads as high as 10,000pF.", 5 -OUT (out) "The Positive and Negative Outputs of the Amplifier. These rail-to-rail outputs are designed to drive capacitive loads as high as 10,000pF.", 6 -VS (power) "The +VS and -VS power supply pins should be bypassed with 0.1uF capacitors to an adequate analog ground or ground plane. The bypass capacitors should be located as closely as possible to the supply pins.", 7 VMID (in) "Mid-Supply Reference. This pin is connected to an on-chip resistive voltage divider to provide a midsupply reference. This provides a convenient way to set the output common mode level at half-supply. If used for this (See Datasheet)", 8 +IN (in) "Inverting and Noninverting Inputs of the Amplifier. For the LTC1992 part, these pins are connected directly to the amplifier’s P-channel MOSFET input devices. The fixed gain LTC1992-X parts have precision, on-chip gain (See Datasheet)"